# EAGLE library part BLE112-A (library SparkFun-Retired)
BlueGiga Bluetooth 4.0 module Bluetooth 4.0 module with integrated chip antenna and onboard 8051 processor and peripherals.
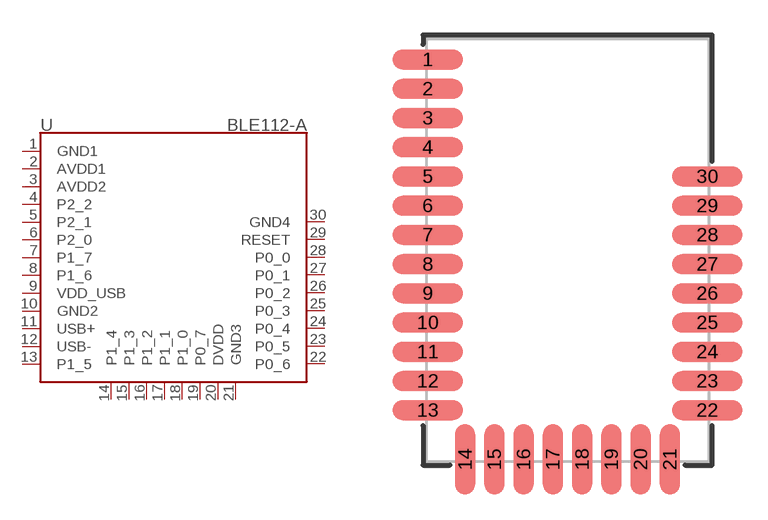
[diagram p3: symbol with the pads of BLE112-A; footprint BLE112-A]

Designator prefix U

## BLE112-A  [BLE112-A]
1  GND1
2  AVDD1
3  AVDD2
4  P2_2
5  P2_1
6  P2_0
7  P1_7
8  P1_6
9  VDD_USB
10  GND2
11  USB+
12  USB-
13  P1_5
14  P1_4
15  P1_3
16  P1_2
17  P1_1
18  P1_0
19  P0_7
20  DVDD
21  GND3
22  P0_6
23  P0_5
24  P0_4
25  P0_3
26  P0_2
27  P0_1
28  P0_0
29  RESET
30  GND4

## Footprint BLE112-A (pad centres in mm)
BLE112-A Bluetooth Smart Module Bluetooth 4.0 module with built-in chip antenna. Datasheet <http://www.mouser.com/ds/2/368/Bluegiga_Technologies_BLE112_Datasheet-558666.pdf>
smd 3 x 0.85: 1 -5.975,8.15; 2 -5.975,6.9; 3 -5.975,5.65; 4 -5.975,4.4; 5 -5.975,3.15; 6 -5.975,1.9; 7 -5.975,0.65; 8 -5.975,-0.6; 9 -5.975,-1.85; 10 -5.975,-3.1; 11 -5.975,-4.35; 12 -5.975,-5.6; 13 -5.975,-6.85; 22 5.975,-6.85; 23 5.975,-5.6; 24 5.975,-4.35; 25 5.975,-3.1; 26 5.975,-1.85; 27 5.975,-0.6; 28 5.975,0.65; 29 5.975,1.9; 30 5.975,3.15
smd 0.85 x 3: 14 -4.375,-8.95; 15 -3.125,-8.95; 16 -1.875,-8.95; 17 -0.625,-8.95; 18 0.625,-8.95; 19 1.875,-8.95; 20 3.125,-8.95; 21 4.375,-8.95